# Altium schematic symbol library SX1276_e268v01a.SchLib: 32 symbols
Pins are listed as number, name and electrical type; pins without a type are passive.

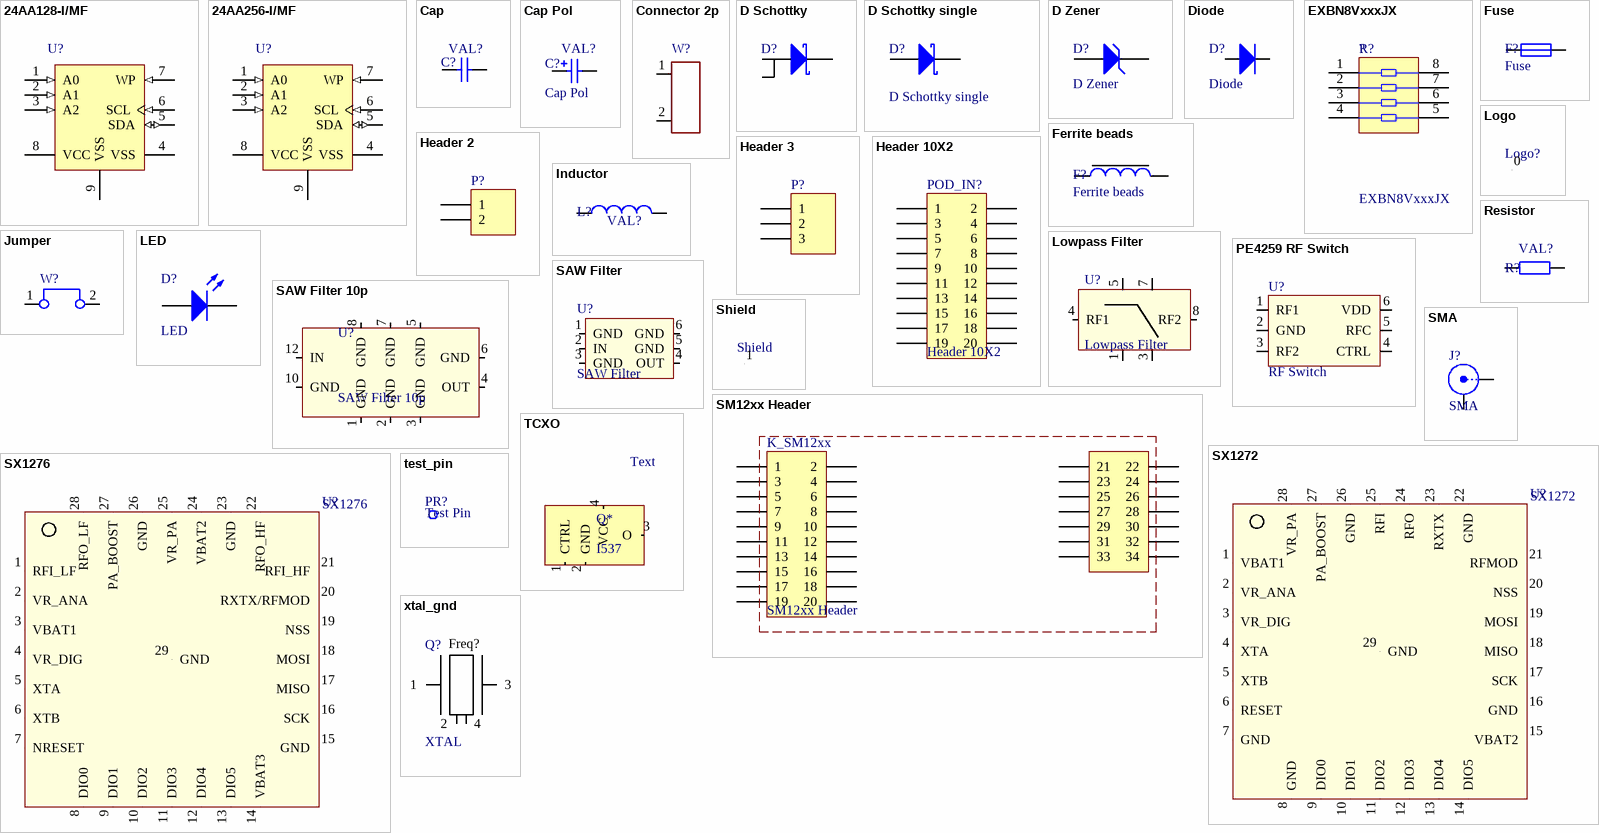
[diagram p0: symbols 24AA128-I/MF to xtal_gnd]

## 24AA128-I/MF
designator U?
128kbit, 400kHz, 1.7V, 8-Pin DFN, Industrial Temperature; Published: 2-Dec-2009; DatasheetVersion: revF, Oct-2008; PackageVersion: revBB, Aug-2009; Publisher: Altium Limited; Supplier 1: Digi-Key; Supplier Part Number 1: 24AA128-I/MF; ComponentLink2Description: Packaging Specification; ComponentLink3Description: Microchip.com Home; ComponentLink3URL: http://www.microchip.com/
footprint DFN8_ 5x6mm (8 Leads, Body 5x6mm, pitch 1.27mm, DFN8)
pins: 1 A0 (in), 2 A1 (in), 3 A2 (in), 4 VSS (power), 5 SDA (io), 6 SCL (in), 7 WP (in), 8 VCC (power), 9 VSS (power)

## 24AA256-I/MF
designator U?
256kbit, 400kHz, 1.7V, 8-Pin DFN, Industrial Temperature; Published: 2-Dec-2009; DatasheetVersion: revF, Oct-2008; PackageVersion: revBB, Aug-2009; Publisher: Altium Limited; Supplier 1: Digi-Key; Supplier Part Number 1: 24AA256-I/MF; ComponentLink2Description: Packaging Specification; ComponentLink3Description: Microchip.com Home; ComponentLink3URL: http://www.microchip.com/
footprint DFN8_ 5x6mm (8 Leads, Body 5x6mm, pitch 1.27mm, DFN8)
pins: 1 A0 (in), 2 A1 (in), 3 A2 (in), 4 VSS (power), 5 SDA (io), 6 SCL (in), 7 WP (in), 8 VCC (power), 9 VSS (power)

## Cap
designator C?  value VAL?  (hidden comment: Cap)
Capacitor SMD; Published: 8-Jun-2000; LatestRevisionDate: 05-oct-2007  -  Semtech; LatestRevisionNote: Re-released for DXP Platform.; Publisher: Altium Limited
simulation model CAP (Semiconductor Capacitor)
signal-integrity model Cap Semi
footprint rlc_402_smd (Chip SMD component 402; Body 1.0 x 0.5 mm (LxW typ))
footprint rlc_603_smd (Chip SMD component 603; Body 1.6 x 0.8mm (LxW typ))
footprint rlc_805_smd (Chip SMD component 805; Body 2.0 x 1.25 mm (LxW typ))
footprint rlc_1206_smd (Chip SMD component 1206; Body 3.2 x 1.6 mm (LxW typ))
footprint rlc_201_smd (Chip SMD component 201; Body 0.6 x 0.3 mm (LxW typ))
pins: 1, 2

## Cap Pol
designator C?  value VAL?
Polarized Capacitor (Surface Mount); Published: 8-Jun-2000; LatestRevisionDate: 05-oct-2007  -  Semtech; LatestRevisionNote: Re-released for DXP Platform.; Publisher: Altium Limited
simulation model CAP (Capacitor)
signal-integrity model Cap Pol
footprint rlc_1210_smd (Chip SMD component 1210; Body 3.2 x 2.5 mm (LxW typ))
footprint rlc_1812_smd (Chip SMD component 1812; Body 4.5 x 3.2 mm (LxW typ))
footprint rlc_2225_smd (Chip SMD component 2225; Body 5.6 x 6.4 mm (LxW typ))
footprint CD3216-1206 (Chip Diode; Body 3.2 x 1.6 mm (LxW typ))
footprint CD2012-0805 (Chip Diode; Body 2.0 x 1.3 mm (LxW typ))
footprint rlc_1206_smd capa pol (Chip SMD component 1206; Body 3.2 x 1.6 mm (LxW typ))
pins: 1, 2
1 alternate drawing of the same symbol

## Connector 2p
designator W?  (value not drawn)
2pins Connector
footprint Connector 2p 2_54mm (Generic connector 2.54mm, 2 Leads 1mm;)
pins: 1, 2

## D Schottky
designator D?
Schottky Diode; Published: 8-Jun-2000; LatestRevisionDate: 17-Jul-2002; LatestRevisionNote: Re-released for DXP Platform.; PackageReference: SMB; Publisher: Altium Limited; Code_JEDEC: DO-214-AA
footprint DPAK-369C-01 (DPAK-369C-01, 3-Leads, Body 6x6.22mm, Pitch 2.3mm, IPC Medium Density)
pins: 1 A, 3 A, 4 K

## D Schottky single
designator D?
Schottky Diode
footprint SOD123 (SOD123; Chip Diode; Body  2.7 x 1.6 mm (LxW typ))
pins: 1 A, 2 K

## D Zener
designator D?
Zener Diode; Published: 8-Jun-2000; LatestRevisionDate: 05-oct-2007  -  Semtech; LatestRevisionNote: Re-released for DXP Platform.; Publisher: Altium Limited
footprint CD1608-0603 (Chip Diode; Body 1.6 x 0.8 mm (LxW typ))
footprint CD2012-0805 (Chip Diode; Body 2.0 x 1.3 mm (LxW typ))
pins: 1 A, 2 K

## Diode
designator D?
Protection Diode; Published: 8-Jun-2000; LatestRevisionDate: 17-Jul-2002; LatestRevisionNote: Re-released for DXP Platform.; PackageDocument: Sep-1996; PackageReference: SMC; Publisher: Altium Limited; Code_JEDEC: 05-oct-2007  -  Semtech
footprint CD1005-0402 (Chip Diode; Body 1.0 x 0.5 mm (LxW typ))
footprint CD1608-0603 (Chip Diode; Body 1.6 x 0.8 mm (LxW typ))
footprint CD2012-0805 (Chip Diode; Body 2.0 x 1.3 mm (LxW typ))
footprint CD3216-1206 (Chip Diode; Body 3.2 x 1.6 mm (LxW typ))
footprint PowerDI 123 (Chip Diode; PowerDI 123)
footprint DO214-AA (Chip Diode; Body 4.3 x3.6mm (LxW typ))
pins: 1 A, 2 K

## EXBN8VxxxJX
designator R?
Mini-Flat Package, Isolated Resistor Network, 0.031 W/resistor; Value: ?
footprint EXB28V (Chip Resistor Array, (0402x4); SM; 8 Leads; Body 2.10 x 1.10 mm (LxW max))
pins: 1, 2, 3, 4, 5, 6, 7, 8

## Ferrite beads
designator F?
Value: VAL?
footprint rlc_1206_smd (Chip SMD component 1206; Body 3.2 x 1.6 mm (LxW typ))
footprint rlc_805_smd (Chip SMD component 805; Body 2.0 x 1.25 mm (LxW typ))
footprint rlc_603_smd (Chip SMD component 603; Body 1.6 x 0.8mm (LxW typ))
footprint rlc_402_smd (Chip SMD component 402; Body 1.0 x 0.5 mm (LxW typ))
pins: 1, 2

## Fuse
designator F?
Published: 8-Jun-2000; LatestRevisionDate: 05-oct-2007  -  Semtech; LatestRevisionNote: Re-released for DXP Platform.; Publisher: Altium Limited
simulation model FUSE (Spice Subcircuit)
footprint rlc_1206_smd (Chip SMD component 1206; Body 3.2 x 1.6 mm (LxW typ))
footprint rlc_805_smd (Chip SMD component 805; Body 2.0 x 1.25 mm (LxW typ))
footprint rlc_603_smd (Chip SMD component 603; Body 1.6 x 0.8mm (LxW typ))
footprint rlc_402_smd (Chip SMD component 402; Body 1.0 x 0.5 mm (LxW typ))
pins: 1, 2

## Header 2
designator P?
Header, 2-Pin; LatestRevisionDate: 17-Jul-2002; LatestRevisionNote: Re-released for DXP Platform.; Publisher: Altium Limited
footprint HDR1X2 (Connector; Header; 2 Position)
signal-integrity model Connector
pins: 1, 2

## Header 3
designator P?
Header, 3-Pin; LatestRevisionDate: 17-Jul-2002; LatestRevisionNote: Re-released for DXP Platform.; Publisher: Altium Limited
footprint HDR1X3 (Connector; Header; 3 Position)
signal-integrity model Connector
pins: 1, 2, 3

## Header 10X2
designator POD_IN?
Header, 10-Pin, Dual row; LatestRevisionDate: 17-Jul-2002; LatestRevisionNote: Re-released for DXP Platform.; Publisher: Altium Limited
footprint HDR2X10 (Connector; Header; 10x2 Position)
footprint HDR2X10 modif (Connector; Header; 10x2 Position - modified)
footprint SSW-110-01-F-D (Connector SMD; Header; 10x2 Position; Samtec)
pins: 1, 2, 3, 4, 5, 6, 7, 8, 9, 10, 11, 12, 13, 14, 15, 16, 17, 18, 19, 20

## Inductor
designator L?  value VAL?  (hidden comment: Inductor)
Code_IEC: 1005; Published: 8-Jun-2000; LatestRevisionDate: 05-oct-2007  -  Semtech; LatestRevisionNote: Re-released for DXP Platform.; Publisher: Altium Limited; Code_JEITA: 0402
footprint rlc_402_smd (Chip SMD component 402; Body 1.0 x 0.5 mm (LxW typ))
footprint rlc_1812_smd (Chip SMD component 1812; Body 4.5 x 3.2 mm (LxW typ))
footprint WE-PD2 Wurth 5.2 x 5.8mm (Chip Diode; Body  5.2 x 5.8mm (LxW typ))
footprint XFL4020 Series (Chip SMD component ; Body 4.0 x 4.0 mm (LxW typ))
pins: 1, 2

## Jumper
designator W?  (value not drawn)
Jumper Wire; LatestRevisionDate: 05-oct-2007  -  Semtech
footprint bridge_254mm (Generic Bridge 2.54mm, 2 Leads 1mm;)
footprint bridge_508mm (Generic Bridge 5.08mm, 2 Leads 1mm;)
pins: 1, 2

## LED
designator D?
LatestRevisionDate: 05-oct-2007  -  Semtech
footprint CD1005-0402 (Chip Diode; Body 1.0 x 0.5 mm (LxW typ))
footprint CD1608-0603 (Chip Diode; Body 1.6 x 0.8 mm (LxW typ))
footprint CD2012-0805 (Chip Diode; Body 2.0 x 1.3 mm (LxW typ))
footprint Reverse LED 3216 - 1206-hole round (Reverse Package Chip LED; Body 3.2 x 1.6 mm (LxW typ))
footprint Reverse LED 3216 - 1206 - hole slot (Reverse Package Chip LED; Body 3.2 x 1.6 mm (LxW typ))
pins: 1 A, 2 K

## Logo
designator Logo?, comment Logo symbol  (value not drawn)
Schematic symbol for Logo
footprint logo_semtech_horiz_size1 (Logo semtech horizontal - size1 - S)
footprint logo_semtech_horiz_size2 (Logo semtech horizontal - size2 - M)
footprint logo_semtech_horiz_size3 (Logo semtech horizontal - size3 - L)
footprint logo_semtech_horiz_size4 (Logo semtech horizontal - size4 - XL)
footprint Logo DC Supply (Logo for DC Supply)
footprint Logo LoRa Size1
footprint Logo LoRa Size2
footprint Logo LoRa Size3
footprint Logo LoRa Size4 (Logo LoRa Size4 - Top Overlay)
pins: 0 "Logo"

## Lowpass Filter
designator U?
RF Filter - Lowpass; LatestRevisionDate: 05-oct-2007  -  Semtech
footprint LP Filter Johanson (Low Pass Filter ; Body 2.00 x 1.25 mm (LxW max))
pins: 1 GND, 3 GND, 4 RF1, 5 GND, 7 GND, 8 RF2

## PE4259 RF Switch
designator U?, comment RF Switch
PE4259 Peregrine RF Switch; LatestRevisionDate: 03-Sep-2012 -  Semtech
footprint SC70-6 (SC70 6-Leads, Body 2.0x1.25mm, Pitch 0.65mm)
pins: 1 RF1, 2 GND, 3 RF2, 4 CTRL, 5 RFC, 6 VDD

## Resistor
designator R?  value VAL?  (hidden comment: Resistor)
Resistor SMD - IEC symbol version; LatestRevisionDate: 27-Jul-20  -  Semtech
footprint rlc_201_smd (Chip SMD component 201; Body 0.6 x 0.3 mm (LxW typ))
footprint rlc_402_smd (Chip SMD component 402; Body 1.0 x 0.5 mm (LxW typ))
footprint rlc_603_smd (Chip SMD component 603; Body 1.6 x 0.8mm (LxW typ))
footprint rlc_805_smd (Chip SMD component 805; Body 2.0 x 1.25 mm (LxW typ))
footprint rlc_1206_smd (Chip SMD component 1206; Body 3.2 x 1.6 mm (LxW typ))
pins: 1, 2

## SAW Filter
designator U?
SAW Filter - Bandpass - TEMEX type; LatestRevisionDate: 05-oct-2007  -  Semtech
footprint sc44_3.8x3.8mm (sc44 footprint, 3.8x3.8mm)
footprint DCC6C_3.0x3.0mm (DCC6C footprint, 3.0x3.0mm)
pins: 1 GND, 2 IN, 3 GND, 4 OUT, 5 GND, 6 GND

## SAW Filter 10p
designator U?
SAW Filter 10p  - Bandpass - RFM type; LatestRevisionDate: 05-oct-2007  -  Semtech
footprint 7.0x5.0mm SMD package (7.0x5.0mm SMD package - 10pins)
pins: 1 GND, 2 GND, 3 GND, 4 OUT, 5 GND, 6 GND, 7 GND, 8 GND, 10 GND, 12 IN

## Shield
designator Shield, comment Logo symbol  (value not drawn)
Shield - EMI Gasket - Standard Surface Mount Shields
footprint BMIS-205-F - Shield (BMIS-205-F EMI Gasket - Standard Surface Mount Shields -  Laird Technologies)
pins: 1 "Shield"

## SM12xx Header
designator K_SM12xx
SM12xx Header; 34pins: 2x10pins + 2x7pins; LatestRevisionDate: 24.8.2012; LatestRevisionNote: Re-released for DXP Platform.; Publisher: Altium Limited
footprint HDR34 Header (Connector; Header; 34 Position - SM12xx Header)
pins: 1, 2, 3, 4, 5, 6, 7, 8, 9, 10, 11, 12, 13, 14, 15, 16, 17, 18, 19, 20, 21, 22, 23, 24, 25, 26, 27, 28, 29, 30, 31, 32, 33, 34

## SMA
designator J?
SMA Straight Connector; LatestRevisionDate: 05-oct-2007  -  Semtech; LatestRevisionNote: Re-released for DXP Platform.; Publisher: Altium Limited
footprint SMA Straight SMD (SMA Connector; Straight; SMD)
footprint SMA END LAUNCH JACK RECEPTACLE (SMA Connector - End Launch Jack Receptacle)
footprint SMA Straight (SMA Connector; Straight)
footprint SMA END LAUNCH JACK RECEPTACLE SHORT (SMA Connector - End Launch Jack Receptacle - Short)
pins: 1 Signal "RF signal", 2 GND "Ground signal"

## SX1272
designator U?
SX1272 - Low Power Integrated UHF Transceiver with Lora technology; LatestRevisionDate: 12-Sep-2012 -  Semtech
footprint vqfn28_6x6mm (28 Leads, Body 6.0x6.0mm, Pitch 0.65mm, VQFN28)
pins: 1 VBAT1, 2 VR_ANA, 3 VR_DIG, 4 XTA, 5 XTB, 6 RESET, 7 GND, 8 GND, 9 DIO0, 10 DIO1, 11 DIO2, 12 DIO3, 13 DIO4, 14 DIO5, 15 VBAT2, 16 GND, 17 SCK, 18 MISO, 19 MOSI, 20 NSS, 21 RFMOD, 22 GND, 23 RXTX, 24 RFO, 25 RFI, 26 GND, 27 PA_BOOST, 28 VR_PA, 29 GND

## SX1276
designator U?
SX1276 - Low Power Integrated UHF Transceiver with loRa Modem; LatestRevisionDate: 27-Jul-2009 -  Semtech
footprint vqfn28_6x6mm (28 Leads, Body 6.0x6.0mm, Pitch 0.65mm, VQFN28)
pins: 1 RFI_LF, 2 VR_ANA, 3 VBAT1, 4 VR_DIG, 5 XTA, 6 XTB, 7 NRESET, 8 DIO0, 9 DIO1, 10 DIO2, 11 DIO3, 12 DIO4, 13 DIO5, 14 VBAT3, 15 GND, 16 SCK, 17 MISO, 18 MOSI, 19 NSS, 20 RXTX/RFMOD, 21 RFI_HF, 22 RFO_HF, 23 GND, 24 VBAT2, 25 VR_PA, 26 GND, 27 PA_BOOST, 28 RFO_LF, 29 GND

## TCXO
designator Q*, comment I537
Termally Compensated External Oscillator
pins: 1 CTRL, 2 GND, 3 O, 4 VCC
text: Text

## test_pin
designator PR?, comment Test Pin
LatestRevisionDate: 05-oct-2007  -  Semtech
footprint pin_1mm (Generic Pin 1.1mm; 1 Lead)
footprint pin_1.1mm (Generic Pin 1.1mm; 1 Lead)
footprint pin_SMD (Generic Pin; 1 pin SMD)
pins: 1 pin  "Test Pin"

## xtal_gnd
designator Q?, comment XTAL  value Freq?
Crystal with GND pins; LatestRevisionDate: 05-oct-2007  -  Semtech
footprint nd2520da (Crystal SMD 2.5x2.0mm)
pins: 1, 2, 3, 4